# EAGLE library part 68711614022 (library Eagle_FPC_CONNECTOR_AND_FFC_CAB (rev18c))
WR-FPC 0.5mm SMT ZIF Horizontal Top Contact, 16 Pins=>Code : Con_FPC_ZIF_0.50_68711614022 <http://katalog.we-online.de/media/images/eican/Con_FPC_ZIF_0.50_6871xx14022_pf2.jpg> Details see: http://katalog.we-online.de/en/em/687_1xx_140_22 Created 2014-07-09, Karrer Zheng 2014 (C) Würth Elektronik
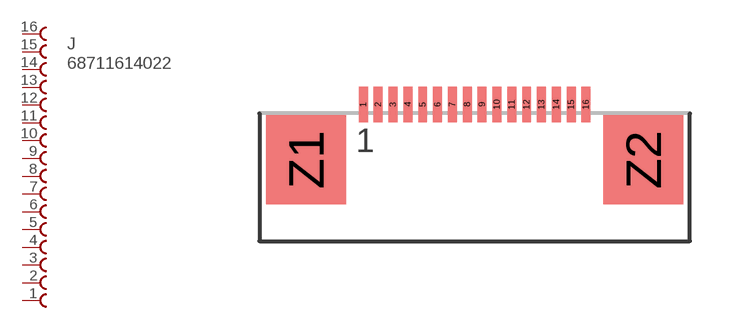
[diagram p22: symbol with the pads of 68711614022; footprint 68711614022]

Designator prefix J

## 68711614022  [68711614022]
1  16  pas
2  15  pas
3  14  pas
4  13  pas
5  12  pas
6  11  pas
7  10  pas
8  9  pas
9  8  pas
10  7  pas
11  6  pas
12  5  pas
13  4  pas
14  3  pas
15  2  pas
16  1  pas

## Footprint 68711614022 (pad centres in mm)
WR-FPC 0.5mm SMT ZIF Horizontal Top Contact, 16 Pins
smd 0.3 x 1.2: 1 -3.75,1.86; 2 -3.25,1.86; 3 -2.75,1.86; 4 -2.25,1.86; 5 -1.75,1.86; 6 -1.25,1.86; 7 -0.75,1.86; 8 -0.25,1.86; 9 0.25,1.86; 10 0.75,1.86; 11 1.25,1.86; 12 1.75,1.86; 13 2.25,1.86; 14 2.75,1.86; 15 3.25,1.86; 16 3.75,1.86
smd 2.7 x 3: Z1 -5.68,0; Z2 5.68,0